# EAGLE library part USB (library Hoektronics)
USB Connectors USB-B-PTH is fully proven SKU : PRT-00139 USB-miniB is fully proven SKU : PRT-00587 USB-A-PCB is untested. USB-A-H is throughly reviewed, but untested. Spark Fun Electronics SKU : PRT-00437 USB-B-SMT is throughly reviewed, but untested. Needs silkscreen touching up. USB-A-S has not been used/tested USB-MB-H has not been used/tested
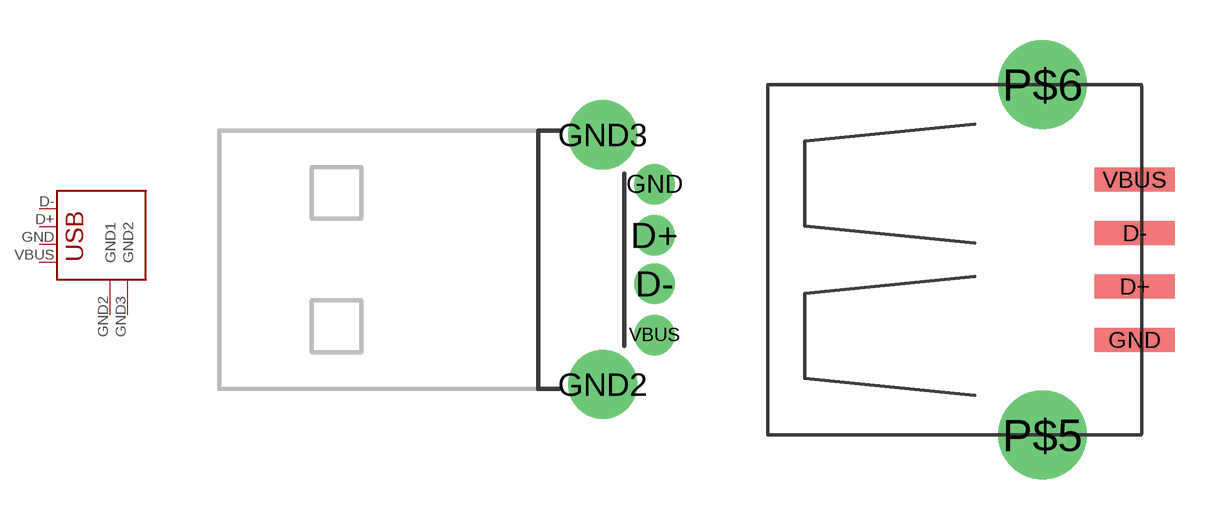
[diagram p5: symbol with the pads of USB-A-H; footprints USB-A-H, USB-A-S]

Designator prefix X

## USB-A-H  [USB-A-H]
D+  D-
D-  D+
GND  VBUS
GND2  GND1
GND3  GND2
VBUS  GND

## USB-A-S  [USB-A-S]
D+  D+
D-  D-
GND  GND
P$5  GND1
P$6  GND2
VBUS  VBUS

## USB-MB-H  [USB-MB-H]
D+  D+
D-  D-
GND  GND
ID  GND1
P$6  GND2
VBUS  VBUS

## USB-B-S  [USB-B-SMT]
5  GND1
6  GND2
D+  D+
D-  D-
GND  GND
VUSB  VBUS

## USBPTH  [USB-B-PTH]
D+  D+
D-  D-
GND  GND
P$1  GND1
P$2  GND2
VBUS  VBUS

## USB-JST-2MM-SMT  [S4B-PH]
1  GND
2  D+
3  D-
4  VBUS
P$1  GND1
P$2  GND2

## USBSMD  [USB-MINIB]
D+  D+
D-  D-
GND  GND
GND@1  GND1
GND@2  GND2
VBUS  VBUS

## USBPTH-VERTICAL  [USB-B-PTH-VERTICAL]
Pads as for USB-B-PTH

## USBUSB-A-S-NOSILK  [USB-A-S-NOSILK]
Pads as for USB-A-S

## USB-A-SMD  [USB-A-S-NOSILK-FEMALE]
Pads as for USB-A-S

## USB-MICROB  [USB-MICROB]
D+  D+
D-  D-
GND  GND
GND@2  GND1
GND@3  GND2
VBUS  VBUS

## USB-SMD-NS  [USB-MINIB-NOSTOP]
D+  D+
D-  D-
G1  GND1
G2  GND2
GND  GND
VBUS  VBUS

## USB_  [USB-A-S-SILK-FEMALE]
Pads as for USB-A-S

## Footprint USB-A-H (pad centres in mm)
USB Series A Hole Mounted
drill 0.914 pad 1.88: D+ 2.4,1.127; D- 2.4,-1.127; GND 2.4,3.5; VBUS 2.4,-3.5
drill 2.2: GND2 0,-5.8; GND3 0,5.8

## Footprint USB-A-S (pad centres in mm)
USB Series A Surface Mounted
smd 3 x 0.9: D+ 3.45,-1; D- 3.45,1; GND 3.45,-3; VBUS 3.45,3
drill 2.311: P$5 0,-6.566; P$6 0,6.566

## Footprint USB-MB-H (pad centres in mm)
USB Series Mini-B Hole Mounted
drill 0.8: D+ 5.1,0; D- 3.9,0.8; GND 5.1,-1.6; ID 3.9,-0.8; VBUS 5.1,1.6
drill 1.9: P$6 0,-3.65; P$7 0,3.65

## Footprint USB-B-SMT (pad centres in mm)
USB Series B Surface Mounted
smd 6.04 x 3.4: 5 0.58,6.8; 6 0.58,-6.8
smd 3 x 0.7: D+ 7,1.875; D- 7,0.625; GND 7,-0.625; VUSB 7,-1.875
hole 1.4 at 0,2.25
hole 1.4 at 0,-2.25

## Footprint USB-B-PTH (pad centres in mm)
USB Series B Hole Mounted
drill 0.914 pad 1.676: D+ 0,1.25; D- 1.981,1.25; GND 0,-1.25; VBUS 1.981,-1.25
drill 2.286: P$1 -2.718,-6.02; P$2 -2.718,6.02

## Footprint S4B-PH (pad centres in mm)
smd 1 x 4.6: 1 -3,-4.7; 2 -1,-4.7; 3 1,-4.7; 4 3,-4.7
smd 1.6 x 3.4: P$1 -5.4,0.5; P$2 5.4,0.5

## Footprint USB-MINIB (pad centres in mm)
USB Series Mini-B Surface Mounted
smd 2.5 x 0.5: D+ 2.5,0; D- 2.5,0.8; GND 2.5,-1.6; ID 2.5,-0.8; VBUS 2.5,1.6
smd 2.5 x 2: GND@1 -3,-4.5; GND@2 -3,4.5; GND@3 2.5,4.5; GND@4 2.5,-4.5
hole 0.9 at 0,2.2
hole 0.9 at 0,-2.2

## Footprint USB-B-PTH-VERTICAL (pad centres in mm)
USB Series B Hole Mounted
drill 0.914 pad 1.676: D+ 4.826,4.394; D- 4.826,7.595; GND 7.315,4.394; VBUS 7.315,7.595
drill 2.286: P$1 0,4.902; P$2 12.04,4.902

## Footprint USB-A-S-NOSILK (pad centres in mm)
smd 3 x 0.9: D+ 3.45,-1; D- 3.45,1; GND 3.45,-3; VBUS 3.45,3
drill 2.311: P$5 0,-6.566; P$6 0,6.566

## Footprint USB-A-S-NOSILK-FEMALE (pad centres in mm)
smd 3 x 0.9: D+ 4.212,-1; D- 4.212,1; GND 4.212,-3.5; VBUS 4.212,3.5
drill 2.311: P$5 0,-6.566; P$6 0,6.566

## Footprint USB-MICROB (pad centres in mm)
Micro USB Package
smd 0.4 x 2: D+ 0,3.1; D- -0.65,3.1; GND 1.3,3.1; ID 0.65,3.1; VBUS -1.3,3.1
smd 1.8 x 1.9: GND@2 -4,0.15; GND@3 4,0.15

## Footprint USB-MINIB-NOSTOP (pad centres in mm)
smd 2.5 x 0.5: D+ 2.5,0; D- 2.5,0.8; GND 2.5,-1.6; ID 2.5,-0.8; VBUS 2.5,1.6
smd 2.5 x 2: G1 -3,-4.5; G2 -3,4.5; G3 2.5,4.5; G4 2.5,-4.5
drill 0.9 pad 0.8: H1 0,2.2
drill 0.9 pad 0.787: H2 0,-2.2

## Footprint USB-A-S-SILK-FEMALE (pad centres in mm)
smd 3 x 0.9: D+ 7.212,-1; D- 7.212,1; GND 7.212,-3.5; VBUS 7.212,3.5
drill 2.311: P$5 3,-6.566; P$6 3,6.566